# EAGLE library part USB-A-V (library _mtvl.connectors)
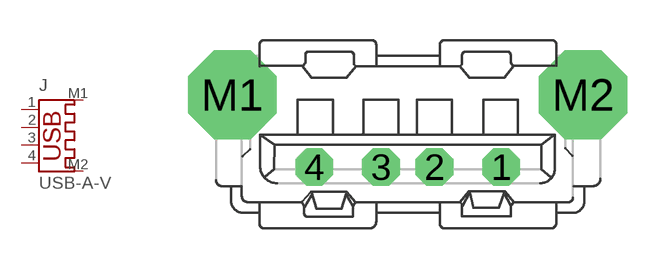
[diagram p14: symbol with the pads of USB-A-V; footprint USB-A-V]

Designator prefix J

## USB-A-V  [USB-A-V]
1  1  pas
2  2  pas
3  3  pas
4  4  pas
M1  M1  pas
M2  M2  pas

## Footprint USB-A-V (pad centres in mm)
drill 0.9 octagon: 1 3.5,0; 2 1,0; 3 -1,0; 4 -3.5,0
drill 2.3 octagon: M1 -6.57,2.71; M2 6.57,2.71